# EAGLE library part LED_RGB3 (library dp_devices)
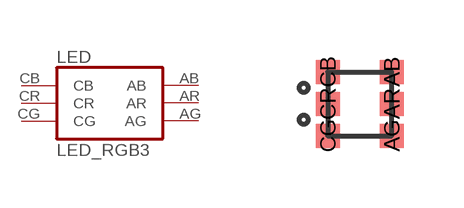
[diagram p87: symbol with the pads of RGBLED; footprint RGBLED]

Designator prefix LED

## LED_RGB3  [RGBLED]
AB  AB
AG  AG
AR  AR
CB  CB
CG  CG
CR  CR

## Footprint RGBLED (pad centres in mm)
smd 0.6 x 0.6: AB 0.8,0.8; AG 0.8,-0.8; AR 0.8,0; CB -0.8,0.8; CG -0.8,-0.8; CR -0.8,0